# Altium footprint library Switches.PcbLib: 1 footprints
Each footprint in its own frame and in the unit in brackets; x right, y up, seen from the top. Pads: shape width x height; smd on the part's side, far side on the other; paste and mask are expansions set on the pad; w line width, h text height; cw(c..) or ccw(c..) is an arc to the next point about the centre after c.
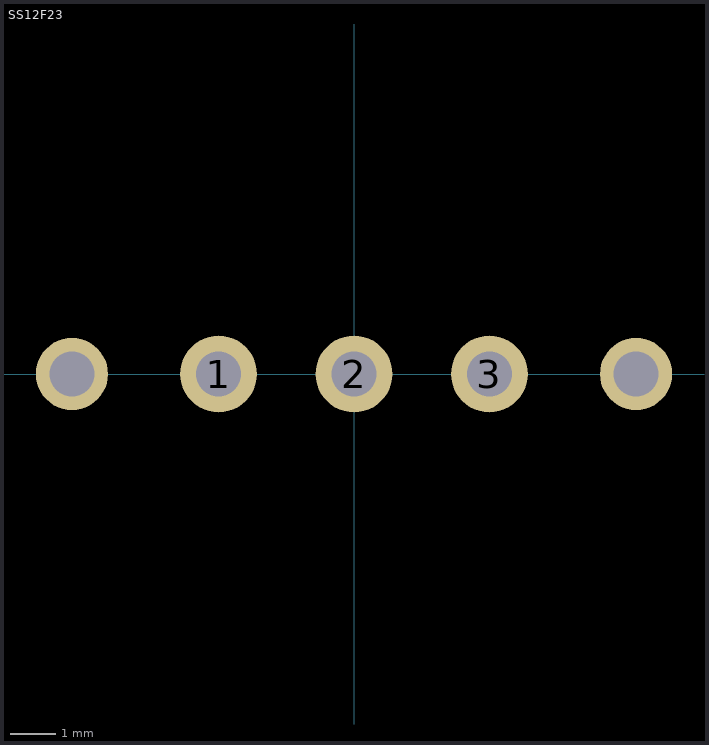
[diagram p0: the footprint, top view; thin cyan lines are the x and y axes]

## SS12F23 [mm]
pads (5):
  round 1.7 hole 1: 1(-3,0) 2(0,0) 3(3,0)
  round 1.6 hole 1: ""(-6.25,0) ""(6.25,0)
3D body "SS12F23.STEP": height 5.85, standoff -3.25, extent -6.5,-12.25 6.5,0.65